# Altium footprint library SSOP65P790-20.PcbLib: 1 footprints
Each footprint in its own frame and in the unit in brackets; x right, y up, seen from the top. Pads: shape width x height; smd on the part's side, far side on the other; paste and mask are expansions set on the pad; w line width, h text height; cw(c..) or ccw(c..) is an arc to the next point about the centre after c.
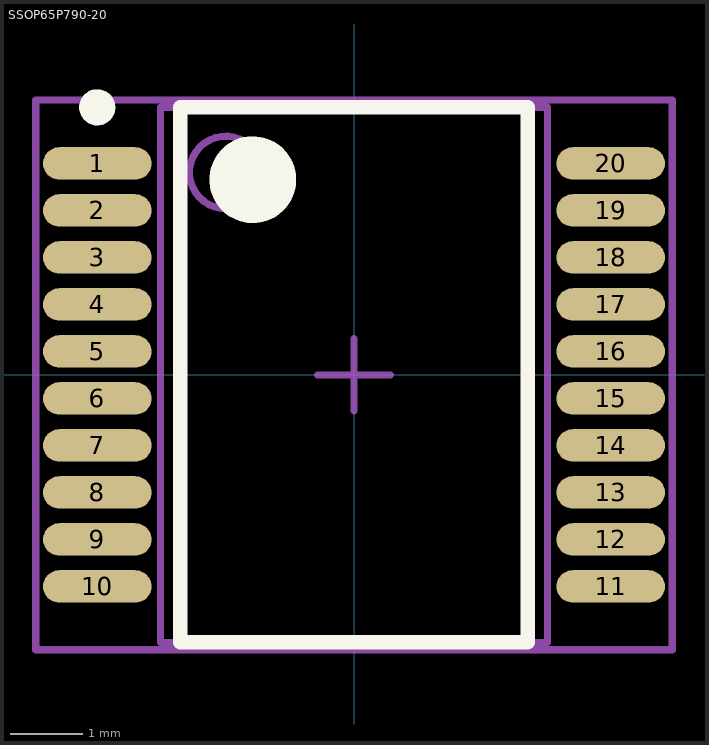
[diagram p0: the footprint, top view; thin cyan lines are the x and y axes]

## SSOP65P790-20 [mm] "SOP, 20-Leads, Body 7.3x5.3mm, Pitch 0.65mm, IPC High Density"
height 2.02
pads (20):
  oval 1.5x0.45 smd: 1(-3.55,2.925) 2(-3.55,2.275) 3(-3.55,1.625) 4(-3.55,0.975) 5(-3.55,0.325) 6(-3.55,-0.325) 7(-3.55,-0.975) 8(-3.55,-1.625) 9(-3.55,-2.275) 10(-3.55,-2.925) 11(3.55,-2.925) 12(3.55,-2.275) 13(3.55,-1.625) 14(3.55,-0.975) 15(3.55,-0.325) 16(3.55,0.325) 17(3.55,0.975) 18(3.55,1.625) 19(3.55,2.275) 20(3.55,2.925)
Top Overlay:
  circle w0.6: c-1.4,2.7 r0.3
  circle w0.25: c-3.55,3.7 r0.125
  lines w0.2: -2.4,-3.7 2.4,-3.7 2.4,3.7 -2.4,3.7 -2.4,-3.7
Mechanical 13:
  circle w0.1: c-1.775,2.8 r0.5
  lines w0.1: -2.675,-3.7 2.675,-3.7 2.675,3.7 -2.675,3.7 -2.675,-3.7
Mechanical 15:
  lines w0.1: -0.5,0 0.5,0 ; 0,-0.5 0,0.5 ; -4.4,-3.8 4.4,-3.8 4.4,3.8 -4.4,3.8 -4.4,-3.8
3D body: height 2.02, standoff 0, extent -2.675,-3.7 2.675,3.7